# Altium footprint library ADG836.PcbLib: 1 footprints
Each footprint in its own frame and in the unit in brackets; x right, y up, seen from the top. Pads: shape width x height; smd on the part's side, far side on the other; paste and mask are expansions set on the pad; w line width, h text height; cw(c..) or ccw(c..) is an arc to the next point about the centre after c.
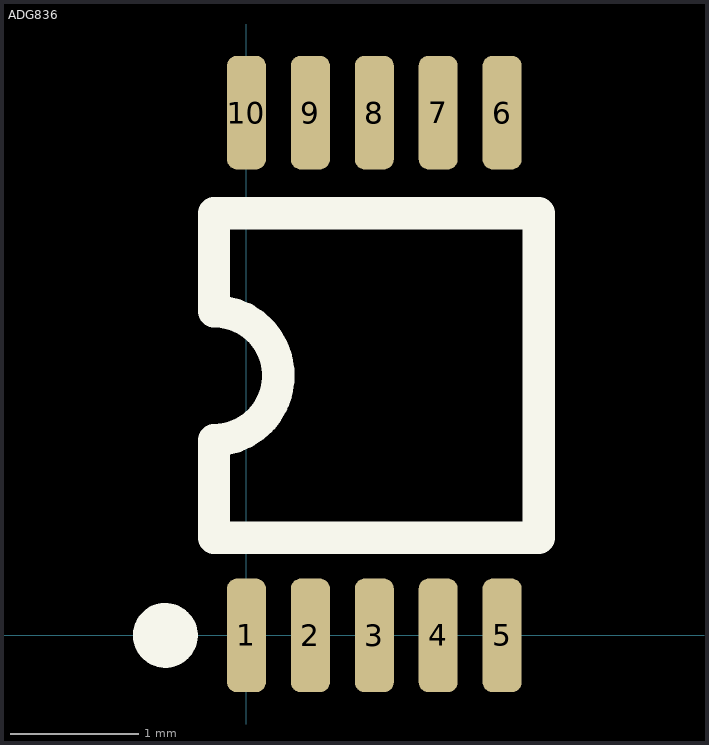
[diagram p0: the footprint, top view; thin cyan lines are the x and y axes]

## ADG836 [mm]
pads (10):
  rrect50% 0.305x0.889 smd: 1(0,0) 2(0.5,0) 3(1,0) 4(1.5,0) 5(2,0) 6(2,4.089) 7(1.5,4.089) 8(1,4.089) 9(0.5,4.089) 10(0,4.089)
Top Overlay:
  circle w0.254: c-0.635,0 r0.127
  lines w0.254: -0.254,0.762 -0.254,1.528 ccw(c-0.254,2.032) -0.254,2.536 -0.254,3.302 2.286,3.302 2.286,0.762 -0.254,0.762